# EAGLE library part LAN9512 (library raspberrypi_cm)
LAN9512 www.hasseb.fi
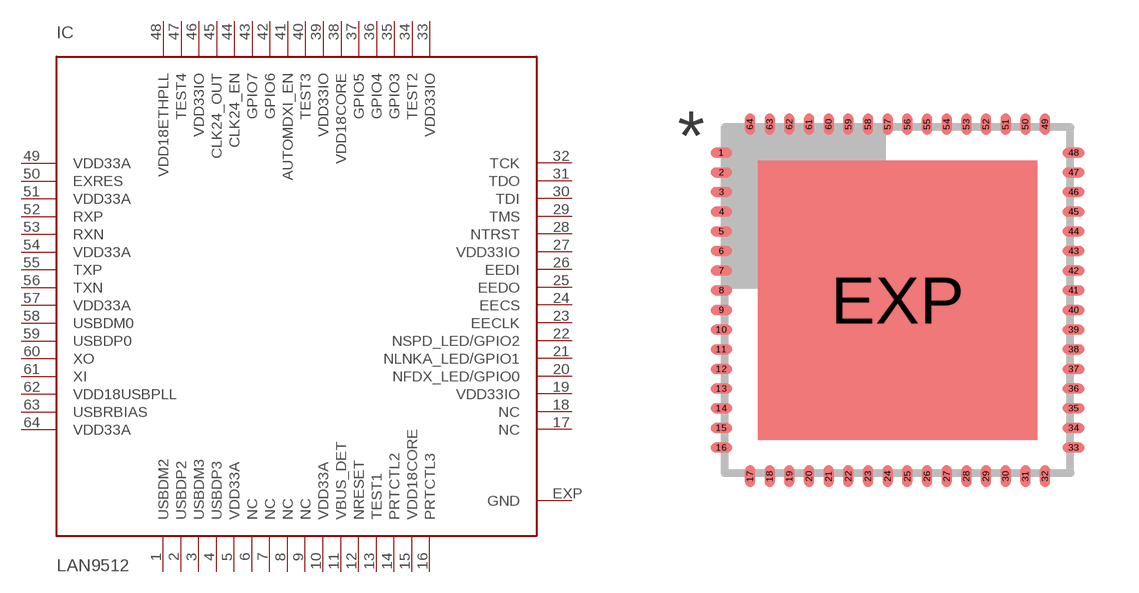
[diagram p3: symbol with the pads of QFN64-9X9; footprint QFN64-9X9]

Designator prefix IC

## LAN9512  [QFN64-9X9]
1  USBDM2
2  USBDP2
3  USBDM3
4  USBDP3
5  VDD33A
6  NC
7  NC
8  NC
9  NC
10  VDD33A
11  VBUS_DET
12  NRESET
13  TEST1
14  PRTCTL2
15  VDD18CORE
16  PRTCTL3
17  NC
18  NC
19  VDD33IO
20  NFDX_LED/GPIO0
21  NLNKA_LED/GPIO1
22  NSPD_LED/GPIO2
23  EECLK
24  EECS
25  EEDO
26  EEDI
27  VDD33IO
28  NTRST
29  TMS
30  TDI
31  TDO
32  TCK
33  VDD33IO
34  TEST2
35  GPIO3
36  GPIO4
37  GPIO5
38  VDD18CORE
39  VDD33IO
40  TEST3
41  AUTOMDXI_EN
42  GPIO6
43  GPIO7
44  CLK24_EN
45  CLK24_OUT
46  VDD33IO
47  TEST4
48  VDD18ETHPLL
49  VDD33A
50  EXRES
51  VDD33A
52  RXP
53  RXN
54  VDD33A
55  TXP
56  TXN
57  VDD33A
58  USBDM0
59  USBDP0
60  XO
61  XI
62  VDD18USBPLL
63  USBRBIAS
64  VDD33A
EXP  GND

## Footprint QFN64-9X9 (pad centres in mm)
QFN64-9X9 Source: http://www.gennum.com/video/pdf/36655DOC.pdf
smd 0.55 x 0.25: 1 -4.477,3.75; 2 -4.477,3.25; 3 -4.477,2.75; 4 -4.477,2.25; 5 -4.477,1.75; 6 -4.477,1.25; 7 -4.477,0.75; 8 -4.477,0.25; 9 -4.477,-0.25; 10 -4.477,-0.75; 11 -4.477,-1.25; 12 -4.477,-1.75; 13 -4.477,-2.25; 14 -4.477,-2.75; 15 -4.477,-3.25; 16 -4.477,-3.75; 33 4.477,-3.75; 34 4.477,-3.25; 35 4.477,-2.75; 36 4.477,-2.25; 37 4.477,-1.75; 38 4.477,-1.25; 39 4.477,-0.75; 40 4.477,-0.25; 41 4.477,0.25; 42 4.477,0.75; 43 4.477,1.25; 44 4.477,1.75; 45 4.477,2.25; 46 4.477,2.75; 47 4.477,3.25; 48 4.477,3.75
smd 0.25 x 0.55: 17 -3.75,-4.477; 18 -3.25,-4.477; 19 -2.75,-4.477; 20 -2.25,-4.477; 21 -1.75,-4.477; 22 -1.25,-4.477; 23 -0.75,-4.477; 24 -0.25,-4.477; 25 0.25,-4.477; 26 0.75,-4.477; 27 1.25,-4.477; 28 1.75,-4.477; 29 2.25,-4.477; 30 2.75,-4.477; 31 3.25,-4.477; 32 3.75,-4.477; 49 3.75,4.477; 50 3.25,4.477; 51 2.75,4.477; 52 2.25,4.477; 53 1.75,4.477; 54 1.25,4.477; 55 0.75,4.477; 56 0.25,4.477; 57 -0.25,4.477; 58 -0.75,4.477; 59 -1.25,4.477; 60 -1.75,4.477; 61 -2.25,4.477; 62 -2.75,4.477; 63 -3.25,4.477; 64 -3.75,4.477
smd 7.1 x 7.1: EXP 0,0